# EAGLE library part J1B1211CCD (library J1B1211CCD)
Modules Accessories RJ-45 w/ Transformer Connector /CETUS Source: Datasheet <http://wizwiki.net/wiki/lib/exe/fetch.php?media=products:wiz550web:wiz550webds_kr:j1b1211ccd.pdf>
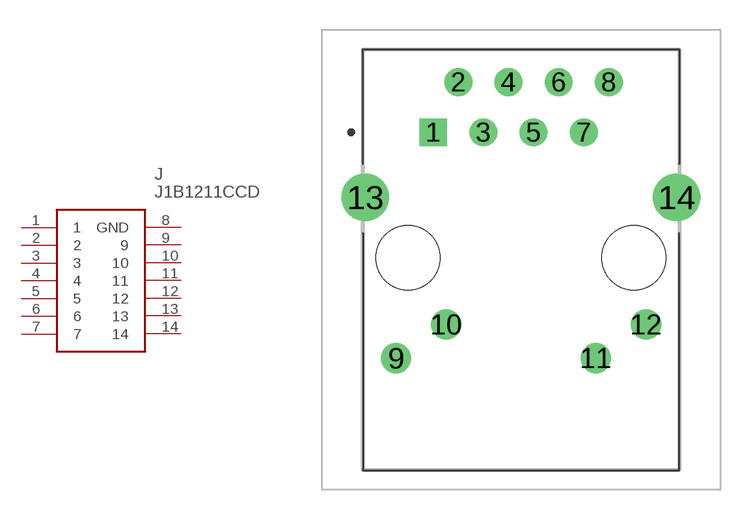
[diagram p0: symbol with the pads of J1B1211CCD; footprint J1B1211CCD]

Designator prefix J

## J1B1211CCD (Description: Modules Accessories RJ-45 w/ Transformer Connector /CETUS; Height: mm; Manufacturer_Name: WIZnet Inc; Manufacturer_Part_Number: J1B1211CCD; Mouser_Part_Number: 950-J1B1211CCD; Mouser_Price-Stock: https://www.mouser.co.uk/ProductDetail/WIZnet/J1B1211CCD?qs=6pHq9bjOlanFLUlTDcmBeQ%3D%3D)  [J1B1211CCD]
1  1
2  2
3  3
4  4
5  5
6  6
7  7
8  GND
9  9
10  10
11  11
12  12
13  13
14  14

## Footprint J1B1211CCD (pad centres in mm)
J1B1211CCD
drill 0.9 pad 1.4 square: 1 -4.445,6.45
drill 0.9 pad 1.4: 2 -3.175,8.99; 3 -1.905,6.45; 4 -0.635,8.99; 5 0.635,6.45; 6 1.905,8.99; 7 3.175,6.45; 8 4.445,8.99
drill 1.02 pad 1.53: 9 -6.325,-4.98; 10 -3.785,-3.28; 11 3.785,-4.98; 12 6.325,-3.28
drill 1.6 pad 2.4: 13 -7.875,3.15; 14 7.875,3.15
hole 3.25 at -5.715,0.1
hole 3.25 at 5.715,0.1